# Altium footprint library SAMTEC_TSSH-110-01-L-D.PcbLib: 1 footprints
Each footprint in its own frame and in the unit in brackets; x right, y up, seen from the top. Pads: shape width x height; smd on the part's side, far side on the other; paste and mask are expansions set on the pad; w line width, h text height; cw(c..) or ccw(c..) is an arc to the next point about the centre after c.
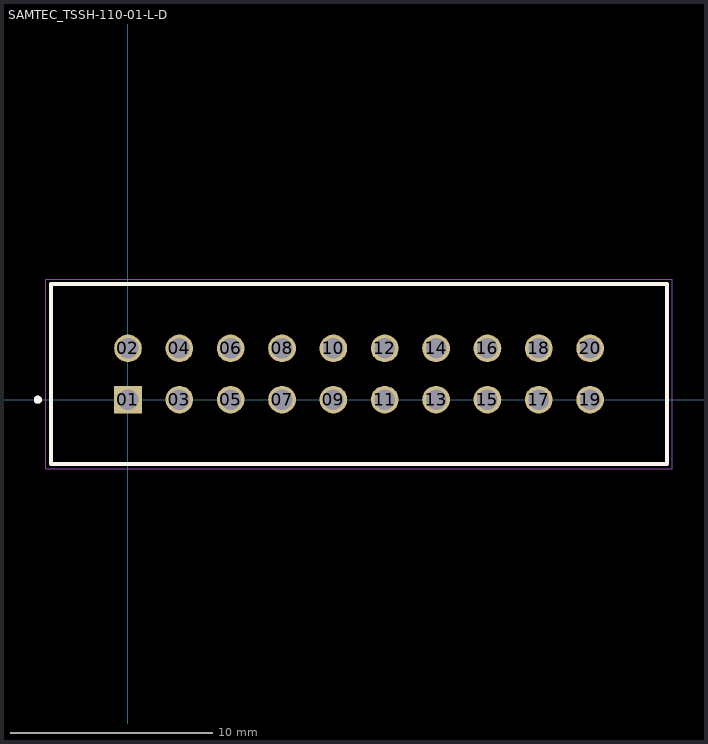
[diagram p0: the footprint, top view; thin cyan lines are the x and y axes]

## SAMTEC_TSSH-110-01-L-D [mm]
pads (20):
  rect 1.37x1.37 hole 1.02: 01(0,0)
  round 1.37 hole 1.02: 02(0,2.54) 03(2.54,0) 04(2.54,2.54) 05(5.08,0) 06(5.08,2.54) 07(7.62,0) 08(7.62,2.54) 09(10.16,0) 10(10.16,2.54) 11(12.7,0) 12(12.7,2.54) 13(15.24,0) 14(15.24,2.54) 15(17.78,0) 16(17.78,2.54) 17(20.32,0) 18(20.32,2.54) 19(22.86,0) 20(22.86,2.54)
Top Overlay:
  circle w0.2: c-4.46,0 r0.1
  lines w0.2: -3.81,-3.175 -3.81,5.715 26.67,5.715 26.67,-3.175 -3.81,-3.175
Mechanical 13:
  circle w0.2: c-4.46,0 r0.1
  lines w0.1: -3.81,-3.175 -3.81,5.715 26.67,5.715 26.67,-3.175 -3.81,-3.175
Mechanical 15:
  lines w0.05: -4.06,-3.425 -4.06,5.965 26.92,5.965 26.92,-3.425 -4.06,-3.425